# Altium footprint library Gateway.PcbLib: 33 footprints (part 1 of 3)
Each footprint in its own frame and in the unit in brackets; x right, y up, seen from the top. Pads: shape width x height; smd on the part's side, far side on the other; paste and mask are expansions set on the pad; w line width, h text height; cw(c..) or ccw(c..) is an arc to the next point about the centre after c.
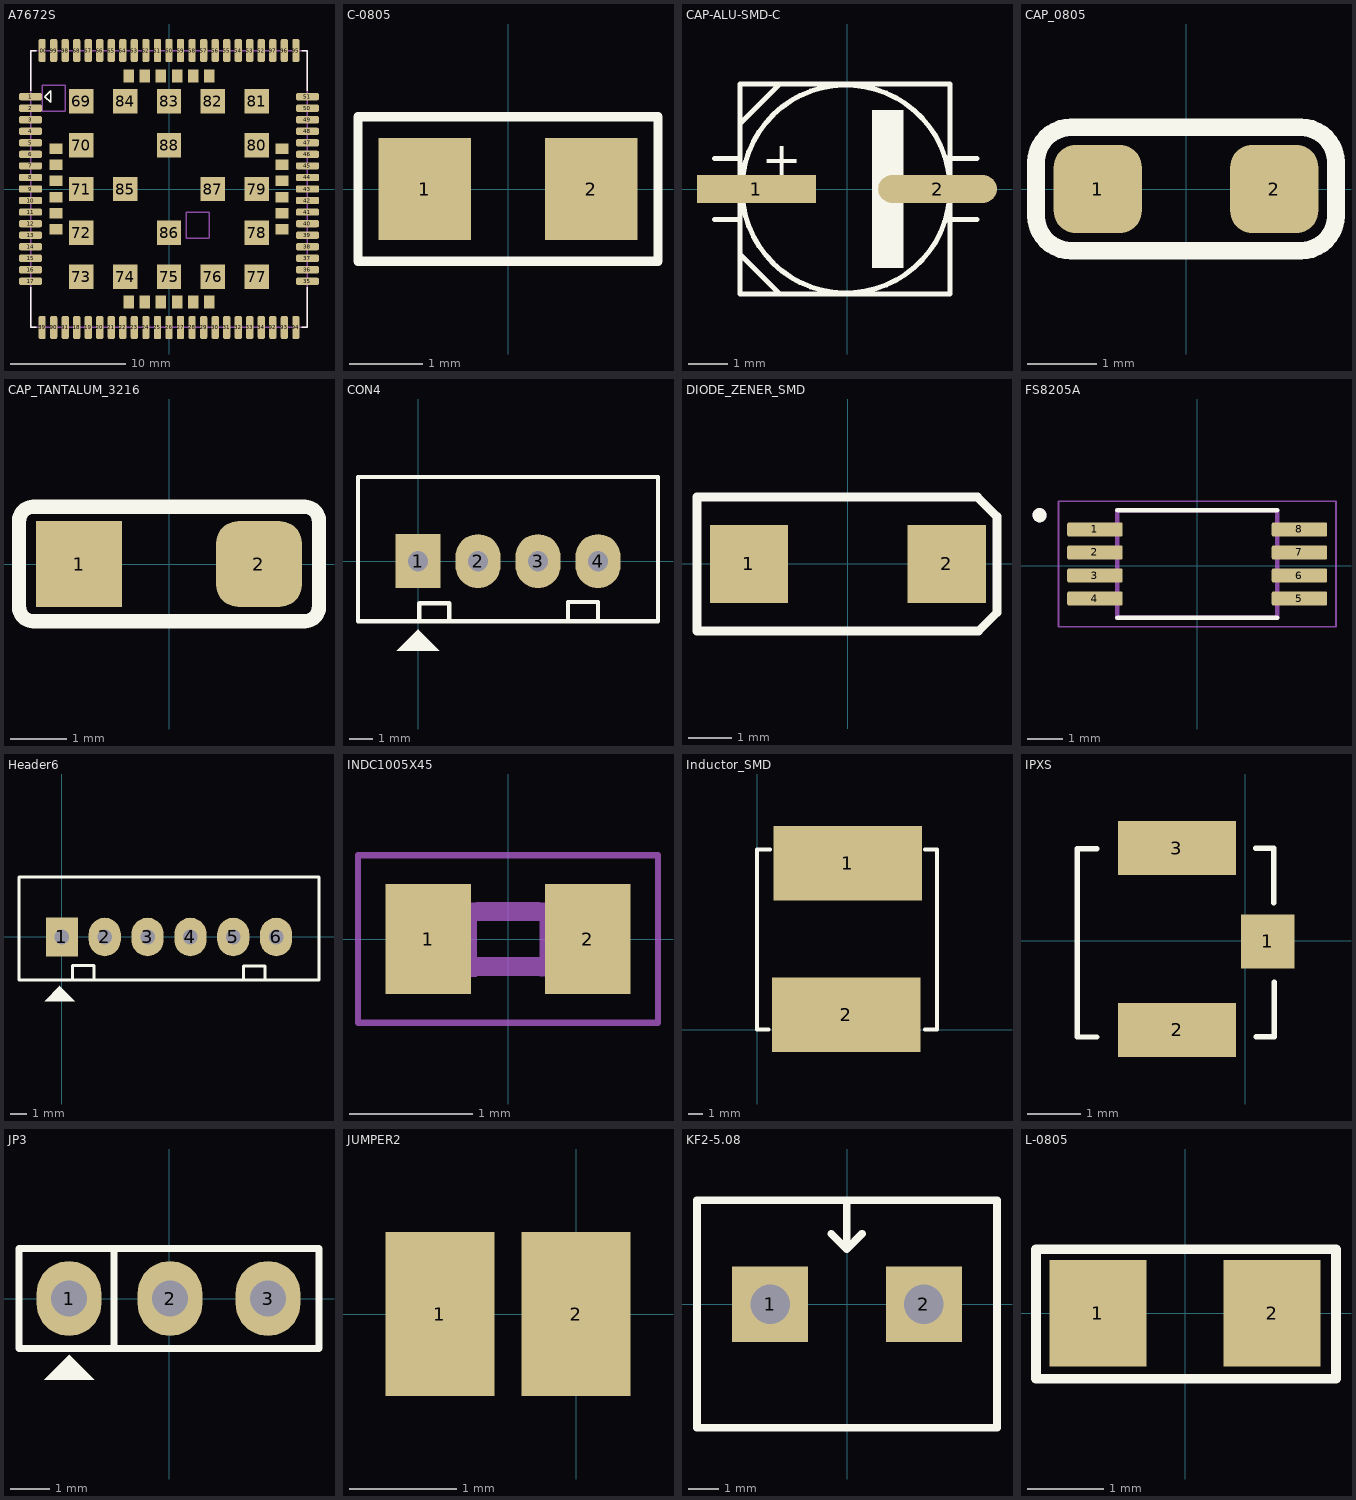
[diagram p0: the footprints below, top view; thin cyan lines are the x and y axes]

## A7672S [mm] "SIMCOM A7672S"
height 5.08
pads (124):
  rrect50% 2x0.635 smd: 1(-12,8) 2(-12,7) 3(-12,6) 4(-12,5) 5(-12,4) 6(-12,3) 7(-12,2) 8(-12,1) 9(-12,0) 10(-12,-1) 11(-12,-2) 12(-12,-3) 13(-12,-4) 14(-12,-5) 15(-12,-6) 16(-12,-7) 17(-12,-8) 35(12,-8) 36(12,-7) 37(12,-6) 38(12,-5) 39(12,-4) 40(12,-3) 41(12,-2) 42(12,-1) 43(12,0) 44(12,1) 45(12,2) 46(12,3) 47(12,4) 48(12,5) 49(12,6) 50(12,7) 51(12,8)
  rrect50% 0.635x2 smd: 18(-8,-12) 19(-7,-12) 20(-6,-12) 21(-5,-12) 22(-4,-12) 23(-3,-12) 24(-2,-12) 25(-1,-12) 26(0,-12) 27(1,-12) 28(2,-12) 29(3,-12) 30(4,-12) 31(5,-12) 32(6,-12) 33(7,-12) 34(8,-12) 52(8,12) 53(7,12) 54(6,12) 55(5,12) 56(4,12) 57(3,12) 58(2,12) 59(1,12) 60(0,12) 61(-1,12) 62(-2,12) 63(-3,12) 64(-4,12) 65(-5,12) 66(-6,12) 67(-7,12) 68(-8,12) 89(-11,-12) 90(-10,-12) 91(-9,-12) 92(9,-12) 93(10,-12) 94(11,-12) 95(11,12) 96(10,12) 97(9,12) 98(-9,12) 99(-10,12) 100(-11,12)
  rect 2.1x2.1 smd: 69(-7.6,7.6) 70(-7.6,3.8) 71(-7.6,0) 72(-7.6,-3.8) 73(-7.6,-7.6) 74(-3.8,-7.6) 75(0,-7.6) 76(3.8,-7.6) 77(7.6,-7.6) 78(7.6,-3.8) 79(7.6,0) 80(7.6,3.8) 81(7.6,7.6) 82(3.8,7.6) 83(0,7.6) 84(-3.8,7.6) 85(-3.8,0) 86(0,-3.8) 87(3.8,0) 88(0,3.8)
  rect 1.1x0.9 smd: 101(-9.8,3.5) 102(-9.8,2.1) 103(-9.8,0.7) 104(-9.8,-0.7) 105(-9.8,-2.1) 106(-9.8,-3.5) 113(9.8,-3.5) 114(9.8,-2.1) 115(9.8,-0.7) 116(9.8,0.7) 117(9.8,2.1) 118(9.8,3.5)
  rect 0.9x1.1 smd: 107(-3.5,-9.8) 108(-2.1,-9.8) 109(-0.7,-9.8) 110(0.7,-9.8) 111(2.1,-9.8) 112(3.5,-9.8) 119(3.5,9.8) 120(2.1,9.8) 121(0.7,9.8) 122(-0.7,9.8) 123(-2.1,9.8) 124(-3.5,9.8)
Top Overlay:
  lines w0.127: -12,-8.5 -12,-12 -11.5,-12 ; -12,8.5 -12,12 -11.5,12 ; 11.5,-12 12,-12 12,-8.5 ; 11.5,12 12,12 12,8.5 ; -10.75,8 -10.25,8.5 -10.25,7.5 -10.75,8
Mechanical 13:
  lines w0.127: -12,-12 -12,12 ; -12,-12 12,-12 ; -12,-12 -12,12 ; -12,-12 12,-12 ; -12,12 12,12 ; -12,12 12,12 ; 12,-12 12,12 ; 12,-12 12,12
Mechanical 15:
  lines w0.127: -11,6.75 -11,9 ; -11,6.75 -9,6.75 ; -11,6.75 -11,9 ; -11,6.75 -9,6.75 ; -11,9 -9,9 ; -11,9 -9,9 ; -9,6.75 -9,9 ; -9,6.75 -9,9 ; 1.5,-4.25 1.5,-2 ; 1.5,-4.25 3.5,-4.25 ; 1.5,-4.25 1.5,-2 ; 1.5,-4.25 3.5,-4.25 ; 1.5,-2 3.5,-2 ; 1.5,-2 3.5,-2 ; 3.5,-4.25 3.5,-2 ; 3.5,-4.25 3.5,-2
3D body "step_temp.STEP": height 2.6, standoff 0, extent -12,-12 12,12
3D body "step_temp.STEP": height 2.6, standoff 0, extent -12,-12 12,12

## C-0805 [mil] "Compoment SMD 80x50mil"
height 50
pads (2):
  rect 50x55 smd: 1(-45,0) 2(45,0)
Top Overlay:
  lines w5: -81,-39 81,-39 81,39 -81,39 -81,-39
3D body "SW3dPS-smt_resistor_packages.STEP": height 24.02, standoff -0.39, extent -39.76,-25 39.76,25

## CAP-ALU-SMD-C [mm]
height 5.08
pads (2):
  rect 3x0.7 smd: 1(-2.286,0)
  oval 3x0.7 smd: 2(2.286,0)
Top Overlay:
  circle w0.127: c-0.025,0 r2.625
  rectangle: 0.625,-2 1.425,2
  lines w0.127: -3.35,-0.775 -2.7,-0.775 ; -3.35,0.775 -2.7,0.775 ; -2.7,-1.65 -1.7,-2.65 ; -2.7,1.65 -1.7,2.65 ; 2.6,-0.775 3.275,-0.775 ; 2.6,0.775 3.275,0.775 ; -2.7,-2.65 -2.7,0 -2.7,2.65 2.6,2.65 2.6,-2.65 -2.7,-2.65
  text "+" at -2.15,0.325 h0.89
3D body "User Library-ALU-C.STEP": height 5.41, standoff 0, extent -2.95,-2.65 2.95,2.65

## CAP_0805 [mm]
height 1.27
pads (2):
  rrect50% 1.27x1.27 smd: 1(-1.27,0) 2(1.27,0)
Top Overlay:
  lines w0.254: -2.159,-0.381 ccw(c-1.651,-0.381) -1.651,-0.889 1.651,-0.889 ccw(c1.651,-0.381) 2.159,-0.381 2.159,0 2.159,0.381 ccw(c1.651,0.381) 1.651,0.889 -1.651,0.889 ccw(c-1.651,0.381) -2.159,0.381 -2.159,-0.381
3D body "SW3dPS-smt_resistor_packages.STEP": height 0.61, standoff -0.01, extent -1.01,-0.635 1.01,0.635

## CAP_TANTALUM_3216 [mil]
pads (2):
  rect 60x60 smd: 1(-62.99,0)
  rrect50% 60x60 smd: 2(62.99,0)
Top Overlay:
  lines w10: -105,-30 ccw(c-95,-30) -95,-40 95,-40 ccw(c95,-30) 105,-30 105,30 ccw(c95,30) 95,40 -95,40 ccw(c-95,30) -105,30 -105,-30
3D body: height 67.43, standoff 0.5, extent -66.92,-35.43 66.94,35.44

## CON4 [mil] "CON4"
height 200
pads (4):
  rect 75x90 hole 34: 1(0,0)
  oval 75x90 hole 34: 2(100,0) 3(200,0) 4(300,0)
Top Overlay:
  region: -35.5,-149.5 35.5,-149.5 0.5,-114.5 0.5,-113.5
  lines w7: 2,-100 2,-70 52,-70 52,-100 ; 250,-98 250,-68 300,-68 300,-98 ; -100,-100 400,-100 400,0 400,140 -100,140 -100,-100
3D body "User Library-HEADER,JST,BxB-XH-A.STEP": height 275.59, standoff -133.86, extent -90,-90 398.19,136.38

## DIODE_ZENER_SMD [mil]
height 200
pads (2):
  rect 70x70 smd: 1(-88.58,0) 2(88.58,0)
Top Overlay:
  lines w7.87: -135,-60 117,-60 133.54,-43.46 133.54,0 133.54,42.46 116,60 -135,60 -135,-60
3D body "User Library-smd diode 1206.STEP": height 56.54, standoff -0.54, extent -68.9,-28.55 68.89,28.54

## FS8205A [mm]
height 5.08
pads (8):
  rrect25% 1.56x0.4 smd: 1(-2.88,1.031) 2(-2.88,0.381) 3(-2.88,-0.269) 4(-2.88,-0.919) 5(2.88,-0.919) 6(2.88,-0.269) 7(2.88,0.381) 8(2.88,1.031)
Top Overlay:
  circle w0.2: c-4.44,1.431 r0.1
  lines w0.127: -2.25,-1.459 2.25,-1.459 ; -2.25,1.571 2.25,1.571
Mechanical 13:
  circle w0.2: c-4.44,1.431 r0.1
  lines w0.127: -2.25,-1.459 -2.25,1.571 2.25,1.571 2.25,-1.459 -2.25,-1.459
Mechanical 15:
  lines w0.05: -3.91,-1.709 -3.91,1.821 3.91,1.821 3.91,-1.709 -3.91,-1.709
3D body "FS8205A--3DModel-STEP-56544.STEP": height 1.2, standoff 0, extent -3.2,-1.397 3.2,1.533

## Header6 [mil] "CON6"
height 200
pads (6):
  rect 75x90 hole 34: 1(0,0)
  oval 75x90 hole 34: 2(100,0) 3(200,0) 4(300,0) 5(400,0) 6(500,0)
Top Overlay:
  region: -40.5,-149.5 30.5,-149.5 -4.5,-114.5 -4.5,-113.5
  lines w7: 25,-97 25,-67 75,-67 75,-97 ; 424,-98 424,-68 474,-68 474,-98 ; -100,-100 -100,140 600,140 600,0 600,-100 -100,-100

## INDC1005X45 [mm]
height 5.08
pads (2):
  rect 0.7x0.9 smd: 1(-0.65,0) 2(0.65,0)
Mechanical 13:
  region: -0.254,-0.306 -0.556,-0.306 -0.556,0.295 -0.254,0.295
  region: 0.559,-0.306 0.26,-0.306 0.26,0.295 0.559,0.295
  lines w0.152: -0.245,-0.224 0.245,-0.224 ; -0.245,0.224 0.245,0.224
Mechanical 15:
  lines w0.051: -1.223,-0.683 1.223,-0.683 1.223,0.683 -1.223,0.683 -1.223,-0.683

## Inductor_SMD [mm]
height 5.08
pads (2):
  rect 10x5 smd: 1(6.096,11.176) 2(6,1)
Top Overlay:
  lines w0.254: 0.762,0 0,0 0,12.1 0.889,12.1 ; 11.303,0 12.1,0 12.1,12.1 11.303,12.1
3D body "CUON CAM CDRH127 3A SMD.step": height 7.15, standoff -0.3, extent 0.096,-0.202 12.096,12.14

## IPXS [mm] "SOT 23 _ 1-3-2"
height 1.27
pads (3):
  rect 1x1 smd: 1(0.415,-0.01)
  rect 2.2x1 smd: 2(-1.273,-1.658) 3(-1.278,1.73)
Top Overlay:
  lines w0.1: -2.767,-1.79 -3.13,-1.79 -3.13,1.716 -2.767,1.716 ; 0.193,1.726 0.524,1.726 0.524,0.709 ; 0.202,-1.783 0.533,-1.783 0.533,-0.766
3D body: height 0.15, standoff 0, extent -0.141,-0.428 0.308,0.406
3D body: height 0.15, standoff 0, extent -2.056,1.103 -0.488,1.561
3D body: height 0.4, standoff 0.1, extent -2.569,-1.262 0.025,1.332
3D body: height 1.55, standoff 0.2, extent -2.274,-1.036 -0.282,0.96
3D body: height 0.15, standoff 0, extent -2.829,-0.415 -2.38,0.419
3D body: height 0.15, standoff 0, extent -2.056,-1.491 -0.488,-1.033
3D body: height 1.55, standoff 0.2, extent -1.48,-0.238 -1.082,0.162

## JP3 [mil] "Jumper 3"
height 200
pads (3):
  oval 65x75 hole 36: 1(-100,0) 2(1,0) 3(99,0)
Top Overlay:
  region: -100,-56 -125,-81 -75,-81
  lines w7: -55,-50 -55,49 ; -150,-50 -150,50 150,50 150,-50 -150,-50
3D body "User Library-PinHeaderX3.STEP": height 355.04, standoff -124.88, extent -150,-59.96 150,55

## JUMPER2 [mil]
pads (2):
  rect 40x60 smd: 1(-50,0) 2(0,0)

## KF2-5.08 [mm]
height 5.08
pads (2):
  rect 2.5x2.5 hole 1.3: 1(-2.54,0) 2(2.54,0)
Top Overlay:
  lines w0.254: -0.521,2.324 -0.013,1.816 ; -0.013,3.378 -0.013,1.816 ; 0.495,2.324 -0.013,1.816 ; -4.953,-4.077 4.953,-4.077 4.953,3.429 -4.953,3.429 -4.953,-4.077
3D body "SW3DPS-HDR1x2-MED-GREEN.STEP": height 10, standoff -4, extent -5,-4.071 5,3.429

## L-0805 [mil] "Compoment SMD 80x50mil"
height 50
pads (2):
  rect 50x55 smd: 1(-45,0) 2(45,0)
Top Overlay:
  lines w5: -77,-34 78,-34 78,33 -77,33 -77,-34
3D body: height 43.31, standoff 0, extent 40,-20 50,20
3D body: height 43.31, standoff 0, extent -50,-20 -40,20
3D body: height 39.37, standoff 0, extent -40,-20 40,20